# Altium integrated library Clocks_001.IntLib: 3 symbols
Pins are listed as number, name and electrical type; pins without a type are passive.

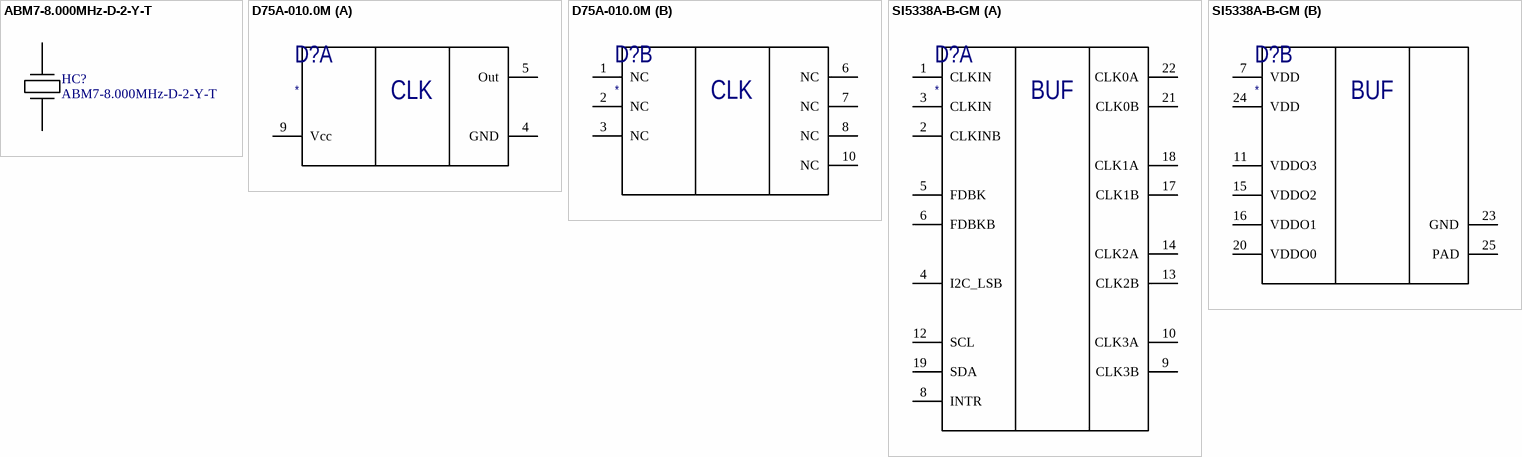
[diagram p0: symbols ABM7-8.000MHz-D-2-Y-T to SI5338A-B-GM]

## ABM7-8.000MHz-D-2-Y-T
designator HC?
SMD Crystal Unit 8MHz; Manufacturer: ABRACON Corporation; ComponentLink1Description: Manufacturer; ComponentLink1URL: http://www.abracon.com; ComponentLink2Description: Datasheet; ComponentLink2URL: http://www.abracon.com/Resonators/abm7.pdf; Manufacturer P/N: ABM7-8.000MHZ-D-2-Y-T; Part: ABM7-8.000MHZ-D-2-Y-T; Family: Crystall
footprint ABM7
pins: 1, 2

## D75A-010.0M
designator D?
Manufacturer: Connor Winfield; Manufacturer P/N: D75A-010.0M; Family: Crystall
footprint 10-SMD(VCTCXO)
part A pins: 4 GND, 5 Out, 9 Vcc
part B pins: 1 NC, 2 NC, 3 NC, 6 NC, 7 NC, 8 NC, 10 NC
part A text: CLK
part B text: CLK

## SI5338A-B-GM
designator D?
Manufacturer: SkyWorks; Manufacturer P/N: SI5338A-B-GM; Family: Crystall
footprint SLAB-QFN-24-2500x2500TP_L (QFN, 24-Leads, Body 4x4mm, Pitch 0.5mm, Thermal Pad 2.5x2.5mm, IPC High Density)
footprint SLAB-QFN-24-2500x2500TP_M (QFN, 24-Leads, Body 4x4mm, Pitch 0.5mm, Thermal Pad 2.5x2.5mm, IPC Low Density)
footprint SLAB-QFN-24-2500x2500TP_N (QFN, 24-Leads, Body 4x4mm, Pitch 0.5mm, Thermal Pad 2.5x2.5mm, IPC Medium Density)
part A pins: 1 CLKIN, 2 CLKINB, 3 CLKIN, 4 I2C_LSB, 5 FDBK, 6 FDBKB, 8 INTR, 9 CLK3B, 10 CLK3A, 12 SCL, 13 CLK2B, 14 CLK2A, 17 CLK1B, 18 CLK1A, 19 SDA, 21 CLK0B, 22 CLK0A
part B pins: 7 VDD, 11 VDDO3, 15 VDDO2, 16 VDDO1, 20 VDDO0, 23 GND, 24 VDD, 25 PAD
part A text: BUF
part B text: BUF